# Altium schematic symbol library ESP8685H4.SchLib: 1 symbol
Pins are listed as number, name and electrical type; pins without a type are passive.

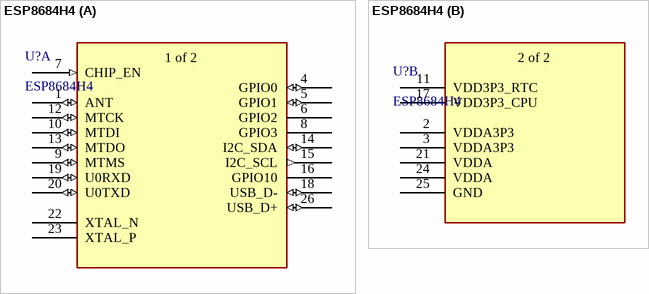
[diagram p0: symbol ESP8684H4]

## ESP8684H4
designator U?
IC RF TxRx + MCU Bluetooth, WiFi 802.11b/g/n, Bluetooth v5.0 2.4GHz 28-VFQFN Exposed Pad; Mfr_Name: Espressif Systems; Manufacturer_Part_Number: ESP8684H2; Copyright: Copyright (C) 2023 Ultra Librarian. All rights reserved.; RefDes: RefDes; Type: DEV
footprint QFN24_4X4_EXP
part A pins: 1 ANT (io), 4 GPIO0 (io), 5 GPIO1 (io), 6 GPIO2, 7 CHIP_EN (in), 8 GPIO3, 9 MTMS (io), 10 MTDI (io), 12 MTCK (io), 13 MTDO (io), 14 I2C_SDA (io), 15 I2C_SCL (out), 16 GPIO10, 18 USB_D- (io), 19 U0RXD (io), 20 U0TXD (io), 22 XTAL_N, 23 XTAL_P, 26 USB_D+ (io)
part B pins: 2 VDDA3P3, 3 VDDA3P3, 11 VDD3P3_RTC, 17 VDD3P3_CPU, 21 VDDA, 24 VDDA, 25 GND
part A text: 1 of 2
part B text: 2 of 2